# EAGLE library part JST-S6B-PH-K (library Mechanical)
JST PH series, through hole shrouded header
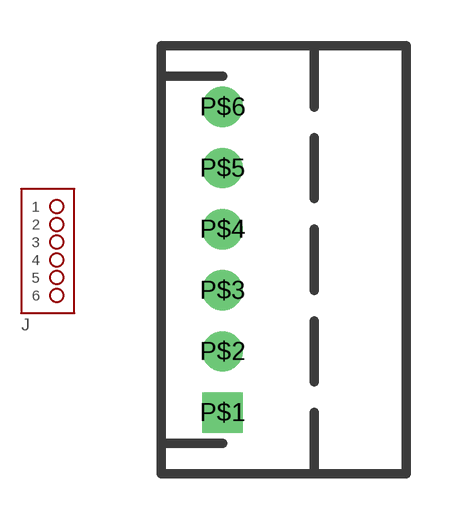
[diagram p55: symbol with the pads of JST-S6B-PH-K; footprint JST-S6B-PH-K]

Designator prefix J

## JST-S6B-PH-K  [JST-S6B-PH-K]
P$1  1  pas
P$2  2  pas
P$3  3  pas
P$4  4  pas
P$5  5  pas
P$6  6  pas

## Footprint JST-S6B-PH-K (pad centres in mm)
JST PH, through-hole, shrouded header
drill 0.813 square: P$1 0,-5
drill 0.813: P$2 0,-3; P$3 0,-1; P$4 0,1; P$5 0,3; P$6 0,5